# Altium footprint library KPT1001S.PcbLib: 36 footprints (part 2 of 3)
Each footprint in its own frame and in the unit in brackets; x right, y up, seen from the top. Pads: shape width x height; smd on the part's side, far side on the other; paste and mask are expansions set on the pad; w line width, h text height; cw(c..) or ccw(c..) is an arc to the next point about the centre after c.
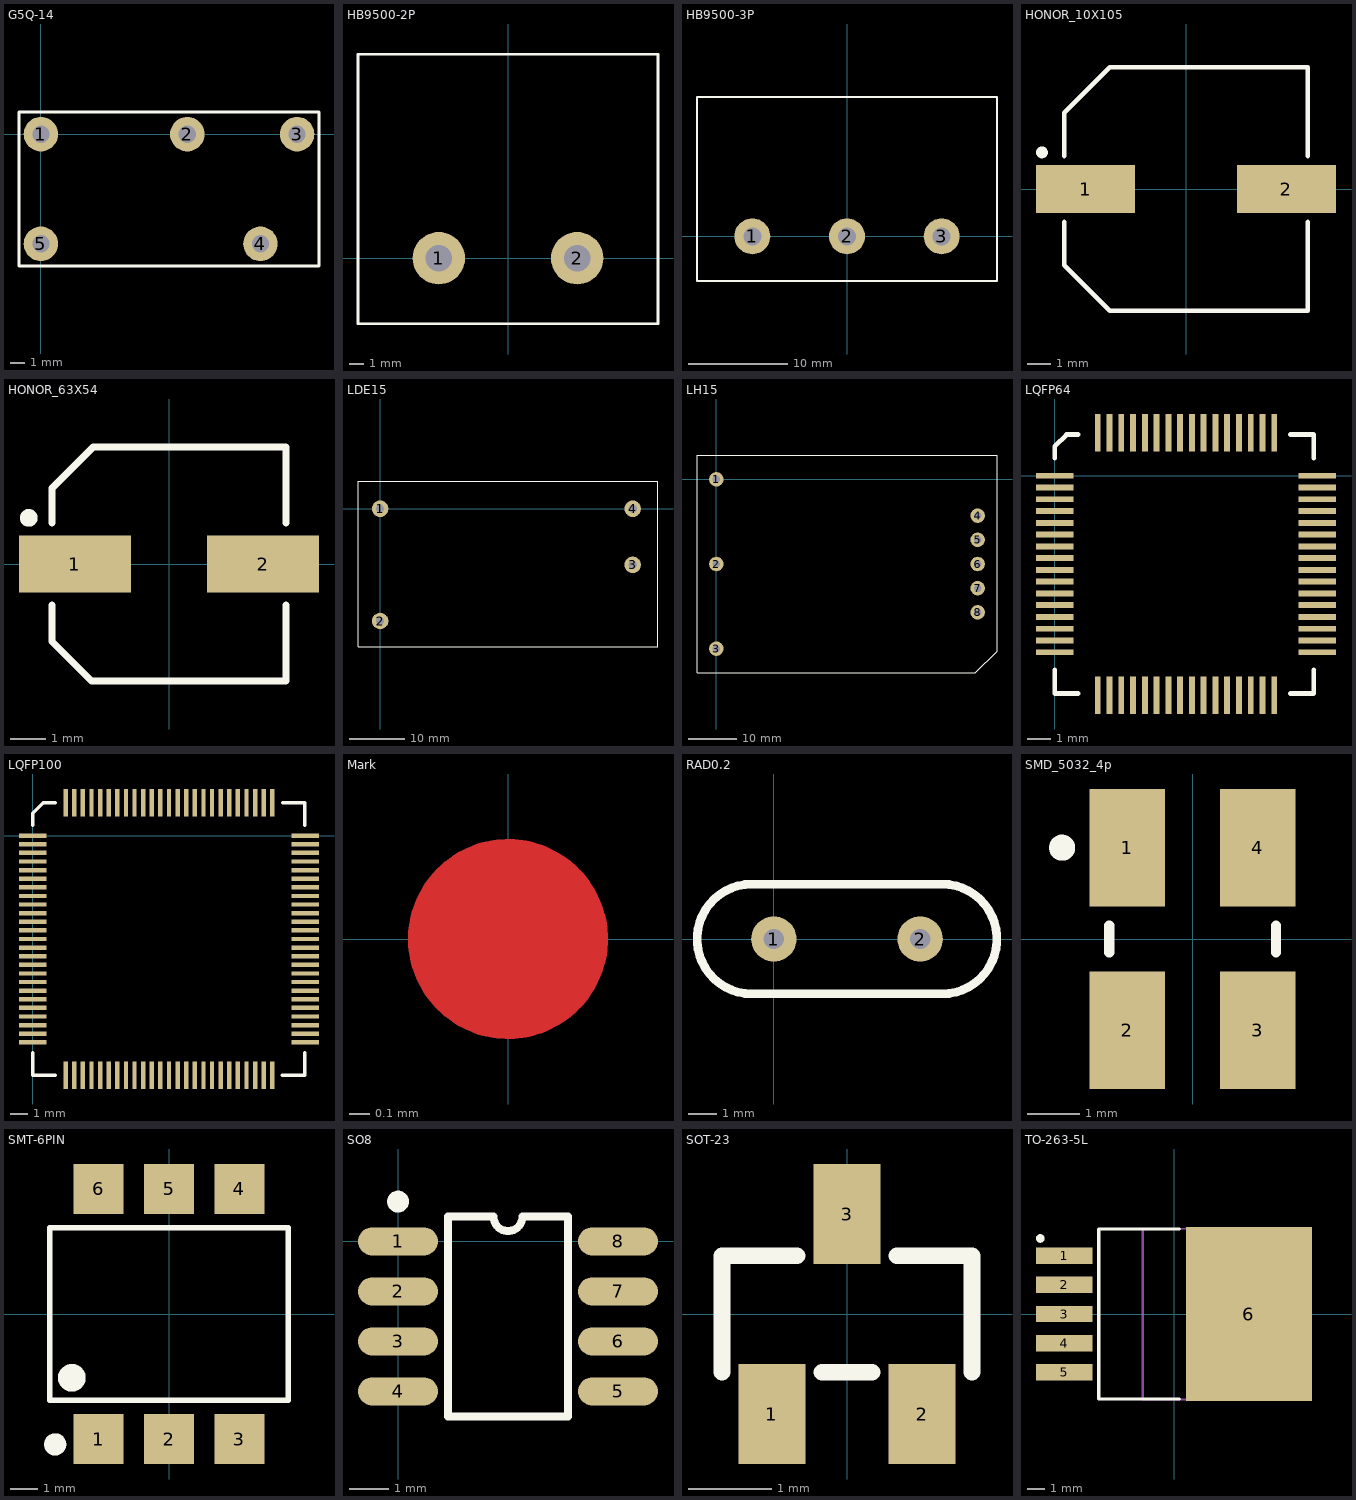
[diagram p1: the footprints below, top view; thin cyan lines are the x and y axes]

## G5Q-14 [mm] "DC12V"
pads (5):
  round 2.4 hole 1.2: 1(0,0) 2(10.16,0) 3(17.78,0) 4(15.24,-7.62) 5(0,-7.62)
Top Overlay:
  lines w0.2: -1.524,-9.144 -1.524,1.524 19.304,1.524 19.304,-9.144 -1.524,-9.144
3D body: height 16, standoff 1, extent -1.524,-9.144 19.304,1.524

## HB9500-2P [mm] "接线端子"
pads (2):
  round 3.6 hole 1.8: 1(-4.75,0) 2(4.75,0)
Top Overlay:
  lines w0.2: -10.3,-4.5 -10.3,14 10.3,14 10.3,-4.5 -10.3,-4.5

## HB9500-3P [mm] "接线端子"
pads (3):
  round 3.6 hole 1.8: 1(-9.5,0) 2(0,0) 3(9.5,0)
Top Overlay:
  lines w0.2: -15.05,-4.5 -15.05,14 15.05,14 15.05,-4.5 -15.05,-4.5

## HONOR_10X105 [mm] "贴装铝电解"
pads (2):
  rect 4.2x2.05 smd: 1(-4.25,0) 2(4.25,0)
Top Overlay:
  circle w0.25: c-6.1,1.55 r0.125
  lines w0.2: -5.15,-1.4 -5.15,-3.232 -3.232,-5.15 5.15,-5.15 5.15,-1.4 ; -5.15,1.4 -5.15,3.232 -3.232,5.15 5.15,5.15 5.15,1.4
3D body: height 7, standoff 1, extent -4.464,-4.491 4.5,4.491
3D body: height 1, standoff 0, extent -4.826,-4.826 4.826,4.826

## HONOR_63X54 [mm]
pads (2):
  rect 3.15x1.6 smd: 1(-2.65,0) 2(2.65,0)
Top Overlay:
  circle w0.25: c-3.95,1.3 r0.125
  lines w0.2: -3.3,-1.15 -3.3,-2.186 -2.186,-3.3 3.3,-3.3 3.3,-1.15 ; -3.3,1.15 -3.3,2.136 -2.136,3.3 3.3,3.3 3.3,1.15

## LDE15 [mm] "金升阳ACDC电源模块"
pads (4):
  round 3 hole 1.5: 1(0,0) 2(0,-20.32) 3(45.72,-10.16) 4(45.72,0)
Top Overlay:
  lines w0.2: -4,-25 50.3,-25 50.3,5 -4,5 -4,-25

## LH15 [mm] "金升阳ACDC电源模块"
pads (8):
  round 3 hole 1.5: 1(0,0) 2(0,-17.5) 3(0,-35) 4(54,-7.5) 5(54,-12.5) 6(54,-17.5) 7(54,-22.5) 8(54,-27.5)
Top Overlay:
  lines w0.2: 58,-35.5 58,-35.5 ; 58,-35.5 53.5,-40 -4,-40 -4,5 58,5 58,-35.5

## LQFP64 [mm] "TSQFP, 64-Leads, Body 12.0x12.0mm (max), Pitch 0.50mm, IPC Medium Density"
height 1.2
pads (64):
  rect 1.6x0.25 smd: 1(0,0) 2(0,-0.5) 3(0,-1) 4(0,-1.5) 5(0,-2) 6(0,-2.5) 7(0,-3) 8(0,-3.5) 9(0,-4) 10(0,-4.5) 11(0,-5) 12(0,-5.5) 13(0,-6) 14(0,-6.5) 15(0,-7) 16(0,-7.5) 33(11.15,-7.5) 34(11.15,-7) 35(11.15,-6.5) 36(11.15,-6) 37(11.15,-5.5) 38(11.15,-5) 39(11.15,-4.5) 40(11.15,-4) 41(11.15,-3.5) 42(11.15,-3) 43(11.15,-2.5) 44(11.15,-2) 45(11.15,-1.5) 46(11.15,-1) 47(11.15,-0.5) 48(11.15,0)
  rect 0.25x1.6 smd: 17(1.825,-9.325) 18(2.325,-9.325) 19(2.825,-9.325) 20(3.325,-9.325) 21(3.825,-9.325) 22(4.325,-9.325) 23(4.825,-9.325) 24(5.325,-9.325) 25(5.825,-9.325) 26(6.325,-9.325) 27(6.825,-9.325) 28(7.325,-9.325) 29(7.825,-9.325) 30(8.325,-9.325) 31(8.825,-9.325) 32(9.325,-9.325) 49(9.325,1.825) 50(8.825,1.825) 51(8.325,1.825) 52(7.825,1.825) 53(7.325,1.825) 54(6.825,1.825) 55(6.325,1.825) 56(5.825,1.825) 57(5.325,1.825) 58(4.825,1.825) 59(4.325,1.825) 60(3.825,1.825) 61(3.325,1.825) 62(2.825,1.825) 63(2.325,1.825) 64(1.825,1.825)
Top Overlay:
  lines w0.2: 0,-8.25 0,-9.25 1,-9.25 ; 0,0.75 0,1.25 0.5,1.75 1,1.75 ; 10,-9.25 11,-9.25 11,-8.25 ; 10,1.75 11,1.75 11,0.75
3D body: height 1.2, standoff 0, extent -0.425,-9.75 11.575,2.25

## LQFP100 [mm] "STM32F103VCT6"
pads (100):
  rect 1.6x0.25 smd: 1(0,0) 2(0,-0.5) 3(0,-1) 4(0,-1.5) 5(0,-2) 6(0,-2.5) 7(0,-3) 8(0,-3.5) 9(0,-4) 10(0,-4.5) 11(0,-5) 12(0,-5.5) 13(0,-6) 14(0,-6.5) 15(0,-7) 16(0,-7.5) 17(0,-8) 18(0,-8.5) 19(0,-9) 20(0,-9.5) 21(0,-10) 22(0,-10.5) 23(0,-11) 24(0,-11.5) 25(0,-12) 51(15.82,-12) 52(15.82,-11.5) 53(15.82,-11) 54(15.82,-10.5) 55(15.82,-10) 56(15.82,-9.5) 57(15.82,-9) 58(15.82,-8.5) 59(15.82,-8) 60(15.82,-7.5) 61(15.82,-7) 62(15.82,-6.5) 63(15.82,-6) 64(15.82,-5.5) 65(15.82,-5) 66(15.82,-4.5) 67(15.82,-4) 68(15.82,-3.5) 69(15.82,-3) 70(15.82,-2.5) 71(15.82,-2) 72(15.82,-1.5) 73(15.82,-1) 74(15.82,-0.5) 75(15.82,0)
  rect 0.25x1.6 smd: 26(1.91,-13.91) 27(2.41,-13.91) 28(2.91,-13.91) 29(3.41,-13.91) 30(3.91,-13.91) 31(4.41,-13.91) 32(4.91,-13.91) 33(5.41,-13.91) 34(5.91,-13.91) 35(6.41,-13.91) 36(6.91,-13.91) 37(7.41,-13.91) 38(7.91,-13.91) 39(8.41,-13.91) 40(8.91,-13.91) 41(9.41,-13.91) 42(9.91,-13.91) 43(10.41,-13.91) 44(10.91,-13.91) 45(11.41,-13.91) 46(11.91,-13.91) 47(12.41,-13.91) 48(12.91,-13.91) 49(13.41,-13.91) 50(13.91,-13.91) 76(13.91,1.91) 77(13.41,1.91) 78(12.91,1.91) 79(12.41,1.91) 80(11.91,1.91) 81(11.41,1.91) 82(10.91,1.91) 83(10.41,1.91) 84(9.91,1.91) 85(9.41,1.91) 86(8.91,1.91) 87(8.41,1.91) 88(7.91,1.91) 89(7.41,1.91) 90(6.91,1.91) 91(6.41,1.91) 92(5.91,1.91) 93(5.41,1.91) 94(4.91,1.91) 95(4.41,1.91) 96(3.91,1.91) 97(3.41,1.91) 98(2.91,1.91) 99(2.41,1.91) 100(1.91,1.91)
Top Overlay:
  lines w0.2: 0,-12.6 0,-13.91 1.3,-13.91 ; 1.3,1.9 0.6,1.9 0,1.3 0,0.6 ; 14.49,-13.9 15.8,-13.9 15.8,-12.6 ; 14.5,1.91 15.8,1.91 15.8,0.6 ; 0,0.6 0,0.6
3D body: height 1.6, standoff 0, extent -0.101,-13.994 15.899,2.006

## Mark [mm]
Top Layer:
  circle w0.5: c0,0 r0.25
Top Solder:
  circle w1.5: c0,0 r0.75

## RAD0.2 [mil] "压敏电阻10d"
pads (2):
  round 62 hole 28: 1(0,0) 2(200,0)
Top Overlay:
  lines w11.81: -30,-75 cw(c-30,0) -30,75 230,75 cw(c230,0) 230,-75 -30,-75

## SMD_5032_4p [mm]
pads (4):
  rect 1.45x2.25 smd: 1(-1.25,1.75) 2(-1.25,-1.75) 3(1.25,-1.75) 4(1.25,1.75)
Top Overlay:
  circle w0.25: c-2.5,1.75 r0.125
  lines w0.2: -1.6,-0.25 -1.6,0.25 ; 1.6,-0.25 1.6,0.25
3D body: height 1, standoff 0, extent -1.905,-2.794 1.905,2.794
3D body: height 1.1, standoff 1, extent -1.468,1.579 -1.07,1.978

## SMT-6PIN [mm]
pads (6):
  rect 1.8x1.8 smd: 1(-2.54,-4.505) 2(0,-4.505) 3(2.54,-4.505) 4(2.54,4.505) 5(0,4.505) 6(-2.54,4.505)
Top Overlay:
  circle w0.5: c-3.5,-2.3 r0.25
  circle w0.4: c-4.1,-4.7 r0.2
  lines w0.2: -4.3,-3.1 -4.3,3.1 4.3,3.1 4.3,-3.1 -4.3,-3.1

## SO8 [mil] "150mil"
height 68.9
pads (8):
  oval 80x28 smd: 1(0,0) 2(0,-50) 3(0,-100) 4(0,-150) 5(220,-150) 6(220,-100) 7(220,-50) 8(220,0)
Top Overlay:
  circle w11.81: c0,39.75 r5
  lines w7.87: 95,24.75 50,24.75 50,-175.25 170,-175.25 170,24.75 125,24.75 ; 95.56,24.75 ccw(c110,24.75) 124.44,24.75
3D body: height 62.99, standoff 0.98, extent -9.11,-171.78 227.11,21

## SOT-23 [mm]
height 1
pads (3):
  rect 0.8x1.2 smd: 1(-0.9,-1.2) 2(0.9,-1.2) 3(0,1.2)
Top Overlay:
  lines w0.2: -1.5,-0.7 -1.5,0.7 -0.6,0.7 ; -0.3,-0.7 0.3,-0.7 ; 0.6,0.7 1.5,0.7 1.5,-0.7
3D body: height 1.1, standoff -0.08, extent -1.453,-1.397 1.447,1.403

## TO-263-5L [mm]
pads (6):
  rect 3.3x0.95 smd: 1(-6.4,3.4) 2(-6.4,1.7) 3(-6.4,0) 4(-6.4,-1.7) 5(-6.4,-3.4)
  rect 7.35x10.15 smd: 6(4.35,0)
Top Overlay:
  circle w0.25: c-7.8,4.4 r0.125
  lines w0.2: 0.3,-4.95 -4.4,-4.95 -4.4,4.95 0.3,4.95
Mechanical 15:
  lines w0.1: 6.5,-4.97 6.87,-4.97 7.62,-4.139 7.62,4.139 6.87,4.97 6.5,4.97 ; 6.5,-4.97 6.5,4.97 ; 6.5,-4.97 -1.8,-4.97 -1.8,4.97 6.5,4.97
Mechanical 16:
  lines w0.001: -1.85,-5 -1.85,5 6.55,5 6.55,-5 -1.85,-5
3D body: height 2, standoff 0, extent -1.85,-5 6.55,5